# Altium footprint library SparkFun-Passives.PCBLIB: 100 footprints (part 5 of 7)
Each footprint in its own frame and in the unit in brackets; x right, y up, seen from the top. Pads: shape width x height; smd on the part's side, far side on the other; paste and mask are expansions set on the pad; w line width, h text height; cw(c..) or ccw(c..) is an arc to the next point about the centre after c.
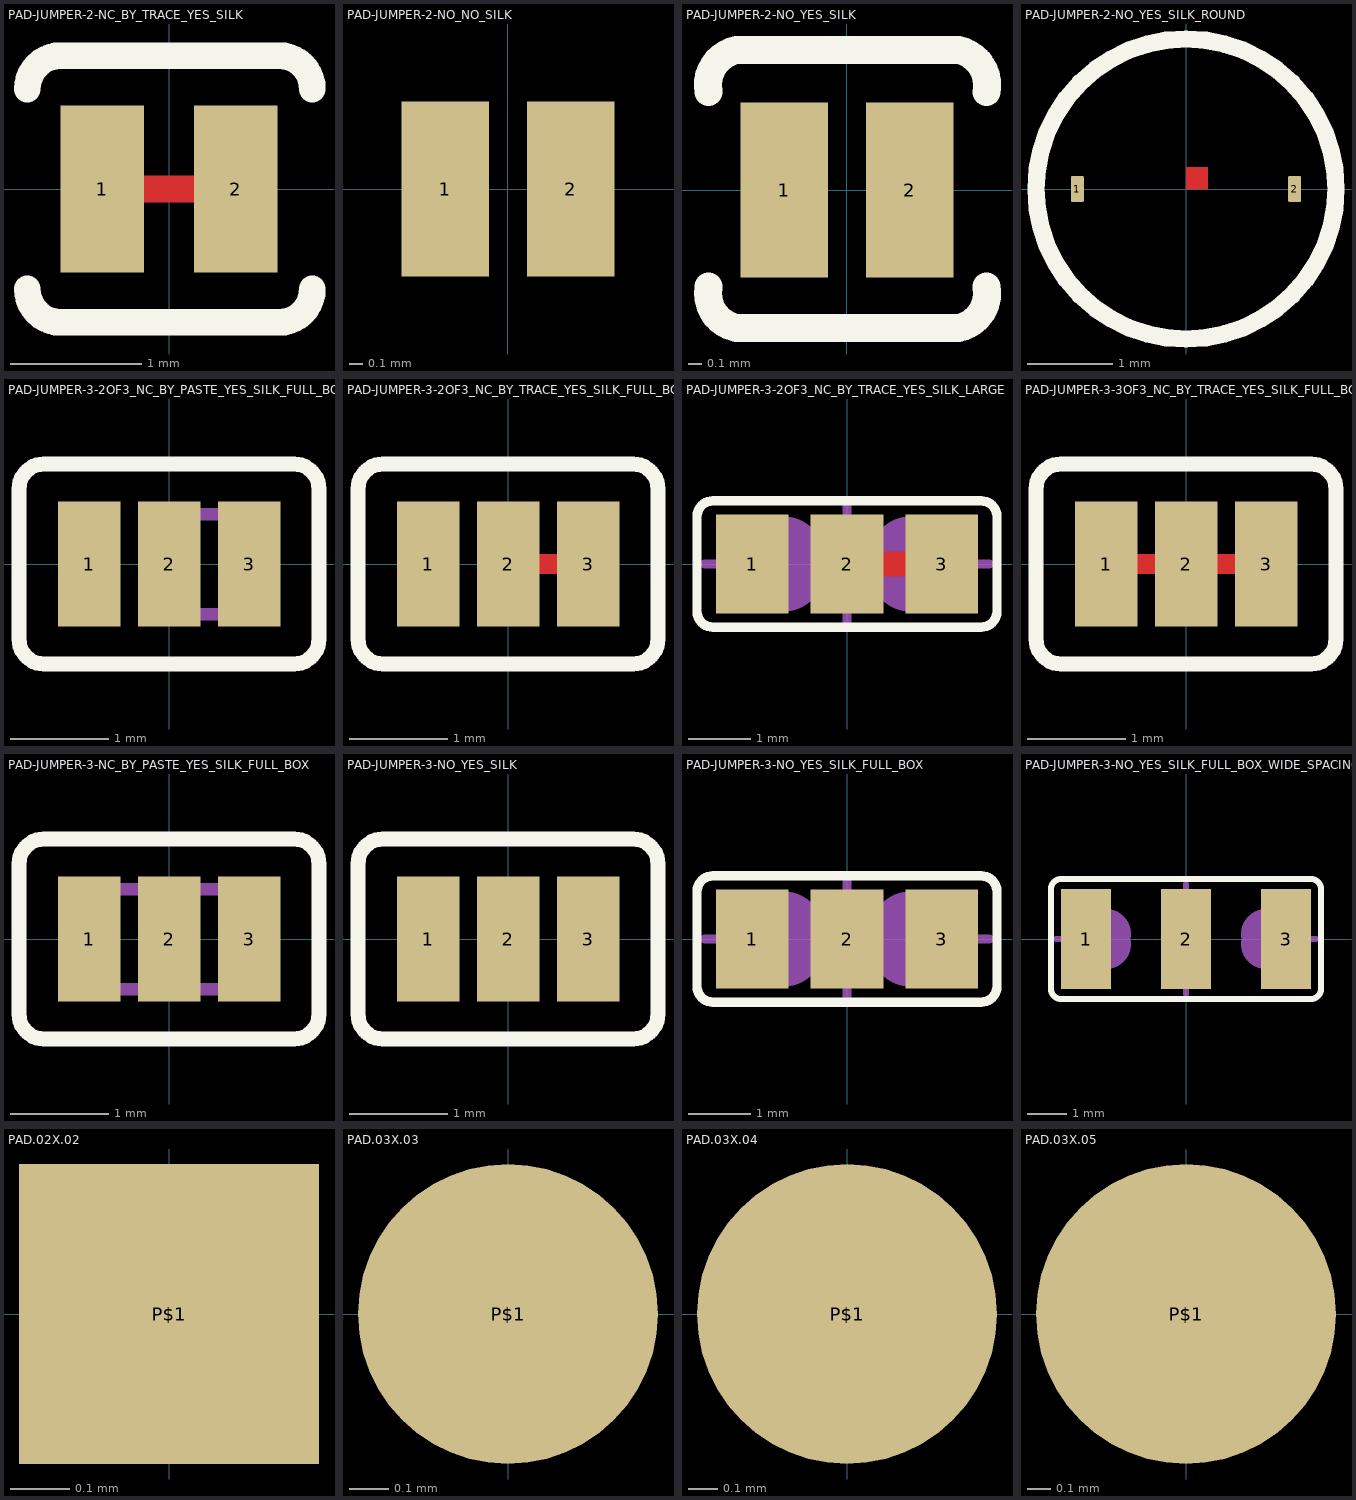
[diagram p4: the footprints below, top view; thin cyan lines are the x and y axes]

## PAD-JUMPER-2-NC_BY_TRACE_YES_SILK [mil]
pads (2):
  rect 25x50 smd: 1(-20,0) 2(20,0)
Top Layer:
  lines w8: -15,0 15,0
Top Overlay:
  lines w8: -42.5,-30 ccw(c-32.5,-30) -32.5,-40 33,-40 ccw(c33,-30) 43,-30 ; -42.5,30 cw(c-32.5,30) -32.5,40 33,40 cw(c33,30) 43,30
Mechanical 2:
  text ">NAME" at -37.5,50 h24.8
Mechanical 4:
  text ">VALUE" at -37.5,-65 h24.8

## PAD-JUMPER-2-NO_NO_SILK [mil]
pads (2):
  rect 25x50 smd: 1(-17.72,0) 2(18,0)
Mechanical 2:
  text ">NAME" at -35.75,50 h24.8
Mechanical 4:
  text ">VALUE" at -35.75,-65 h24.8

## PAD-JUMPER-2-NO_YES_SILK [mil]
pads (2):
  rect 25x50 smd: 1(-17.72,0) 2(18,0)
Top Overlay:
  lines w8: -39.37,-27.56 ccw(c-29.53,-29.53) -31.5,-39.37 32,-39.37 ccw(c30.09,-29.46) 40,-27.56 ; -39.37,28 cw(c-29.43,30.06) -31.5,40 32,40 cw(c30,30) 40,28
Mechanical 2:
  text ">NAME" at -35.75,50 h24.8
Mechanical 4:
  text ">VALUE" at -35.75,-65 h24.8

## PAD-JUMPER-2-NO_YES_SILK_ROUND [mil]
pads (2):
  rrect20% 6x12 smd: 1(-50,0) 2(50,0)
Top Layer:
  region: 0,0 10,0 10,10 0,10
  region: 0,0 10,0 10,10 0,10
Top Overlay:
  circle w8: c0,0 r69
Top Solder:
  region: 0,0 10,0 10,10 0,10
Mechanical 2:
  text ">NAME" at -112.5,88 h77.5
Mechanical 4:
  text ">VALUE" at -125,-137.5 h77.5

## PAD-JUMPER-3-2OF3_NC_BY_PASTE_YES_SILK_FULL_BOX [mil]
pads (3):
  rect 25x50 smd: 1(-32,0) 2(0,0) 3(32,0)
Top Overlay:
  lines w6: -60,-30 ccw(c-50,-30) -50,-40 50,-40 ccw(c50,-30) 60,-30 60,30 ccw(c50,30) 50,40 -50,40 ccw(c-50,30) -60,30 -60,-30
Top Paste:
  rectangle: -11,-40 56,39
Mechanical 2:
  text ">NAME" at -50,50 h24.8
Mechanical 4:
  text ">VALUE" at -3.94,0 h1.55
  text ">VALUE" at -50,-75 h24.8
Mechanical 16:
  lines w5: -7.5,-20 -7.5,20 40,20 40,-20 -7.5,-20
  text "PASTE" at 3,-17.5 h15.5

## PAD-JUMPER-3-2OF3_NC_BY_TRACE_YES_SILK_FULL_BOX [mil]
pads (3):
  rect 25x50 smd: 1(-32,0) 2(0,0) 3(32,0)
Top Layer:
  lines w8: 0,0 25,0
Top Overlay:
  lines w6: -60,-30 ccw(c-50,-30) -50,-40 50,-40 ccw(c50,-30) 60,-30 60,30 ccw(c50,30) 50,40 -50,40 ccw(c-50,30) -60,30 -60,-30
Mechanical 2:
  text ">NAME" at -50,50 h24.8
Mechanical 4:
  text ">VALUE" at -50,-75 h24.8

## PAD-JUMPER-3-2OF3_NC_BY_TRACE_YES_SILK_LARGE [mil]
pads (3):
  rect 46x63 smd: 1(-60,0) 2(0,0) 3(60,0)
Top Layer:
  lines w16: 0,0 50,0
Top Overlay:
  lines w6: -95,-30 ccw(c-85,-30) -85,-40 85,-40 ccw(c85,-30) 95,-30 95,30 ccw(c85,30) 85,40 -85,40 ccw(c-85,30) -95,30 -95,-30
Mechanical 2:
  text ">NAME" at -95,50 h77.5
Mechanical 4:
  text ">VALUE" at -3.94,0 h1.55
Mechanical 16:
  rectangle: -20,-30 20,30
  lines w6: -90,0 -70,0 ; 0,-40 0,-30 ; 0,30 0,40 ; 70,0 90,0
  lines w16: 0,0 50,0
  lines w50: -40,-5 cw(c-40,0) -40,5 ; 40,-5 ccw(c40,0) 40,5

## PAD-JUMPER-3-3OF3_NC_BY_TRACE_YES_SILK_FULL_BOX [mil]
pads (3):
  rect 25x50 smd: 1(-32,0) 2(0,0) 3(32,0)
Top Layer:
  lines w8: -40,0 -10,0 ; 10,0 40,0
Top Overlay:
  lines w6: -60,-30 ccw(c-50,-30) -50,-40 50,-40 ccw(c50,-30) 60,-30 60,30 ccw(c50,30) 50,40 -50,40 ccw(c-50,30) -60,30 -60,-30
Mechanical 2:
  text ">NAME" at -50,50 h24.8
Mechanical 4:
  text ">VALUE" at -50,-75 h24.8

## PAD-JUMPER-3-NC_BY_PASTE_YES_SILK_FULL_BOX [mil]
pads (3):
  rect 25x50 smd: 1(-32,0) 2(0,0) 3(32,0)
Top Overlay:
  lines w6: -60,-30 ccw(c-50,-30) -50,-40 50,-40 ccw(c50,-30) 60,-30 60,30 ccw(c50,30) 50,40 -50,40 ccw(c-50,30) -60,30 -60,-30
Top Paste:
  rectangle: -59,-39 59,39
Mechanical 2:
  text ">NAME" at -50,50 h24.8
Mechanical 4:
  text ">VALUE" at -50,-75 h24.8
Mechanical 16:
  lines w5: -40,-20 -40,20 40,20 40,-20 -40,-20
  text "PASTE" at -13.05,-17.5 h15.5

## PAD-JUMPER-3-NO_YES_SILK [mil]
pads (3):
  rect 25x50 smd: 1(-32,0) 2(0,0) 3(32,0)
Top Overlay:
  lines w6: -60,-30 ccw(c-50,-30) -50,-40 50,-40 ccw(c50,-30) 60,-30 60,30 ccw(c50,30) 50,40 -50,40 ccw(c-50,30) -60,30 -60,-30
Mechanical 2:
  text ">NAME" at -50,50 h24.8
Mechanical 4:
  text ">VALUE" at -3.94,0 h1.55
  text ">VALUE" at -50,-75 h24.8

## PAD-JUMPER-3-NO_YES_SILK_FULL_BOX [mil]
pads (3):
  rect 46x63 smd: 1(-60,0) 2(0,0) 3(60,0)
Top Overlay:
  lines w6: -95,-30 ccw(c-85,-30) -85,-40 85,-40 ccw(c85,-30) 95,-30 95,30 ccw(c85,30) 85,40 -85,40 ccw(c-85,30) -95,30 -95,-30
Mechanical 2:
  text ">NAME" at -95,50 h77.5
Mechanical 4:
  text ">VALUE" at -3.94,0 h1.55
Mechanical 16:
  rectangle: -20,-30 20,30
  lines w6: -90,0 -70,0 ; 0,-40 0,-30 ; 0,30 0,40 ; 70,0 90,0
  lines w50: -40,-5 cw(c-40,0) -40,5 ; 40,-5 ccw(c40,0) 40,5

## PAD-JUMPER-3-NO_YES_SILK_FULL_BOX_WIDE_SPACING [mil]
pads (3):
  rect 50x100 smd: 1(-100,0) 2(0,0) 3(100,0)
Top Overlay:
  lines w6: -135,-50 ccw(c-125,-50) -125,-60 125,-60 ccw(c125,-50) 135,-50 135,50 ccw(c125,50) 125,60 -125,60 ccw(c-125,50) -135,50 -135,-50
Mechanical 2:
  text ">NAME" at -135,70 h77.5
Mechanical 4:
  text ">VALUE" at -3.94,0 h1.55
Mechanical 16:
  rectangle: -20,-30 20,30
  lines w6: -130,0 -110,0 ; 0,-55 0,-30 ; 0,30 0,55 ; 110,0 130,0
  lines w50: -80,-5 cw(c-80,0) -80,5 ; 80,-5 ccw(c80,0) 80,5

## PAD.02X.02 [mil]
pads (1):
  rect 20x20 smd: P$1(0,0)

## PAD.03X.03 [mil]
pads (1):
  rrect100% 30x30 smd: P$1(0,0)

## PAD.03X.04 [mil]
pads (1):
  rrect100% 40x40 smd: P$1(0,0)

## PAD.03X.05 [mil]
pads (1):
  rrect100% 50x50 smd: P$1(0,0)